# Altium footprint library SignalCommunications.PCBLIB: 466 footprints (part 11 of 30)
Each footprint in its own frame and in the unit in brackets; x right, y up, seen from the top. Pads: shape width x height; smd on the part's side, far side on the other; paste and mask are expansions set on the pad; w line width, h text height; cw(c..) or ccw(c..) is an arc to the next point about the centre after c.
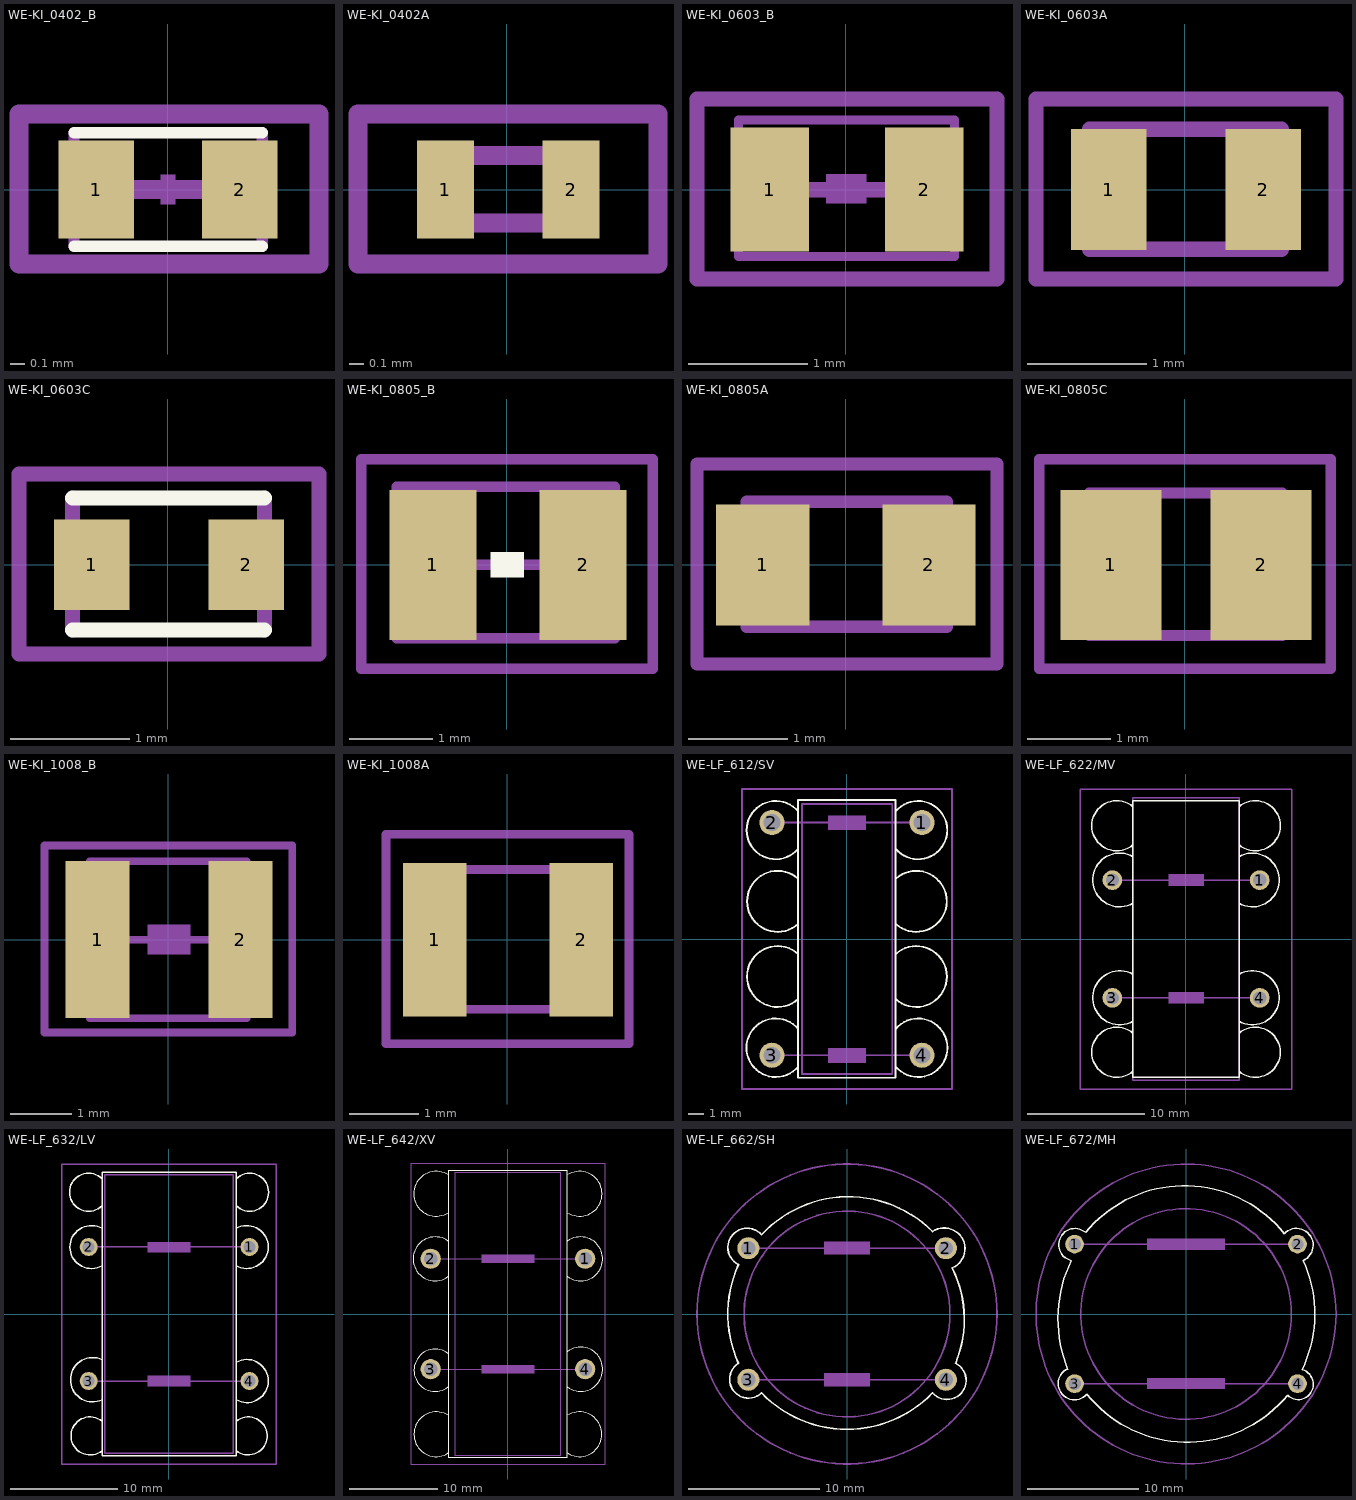
[diagram p10: the footprints below, top view; thin cyan lines are the x and y axes]

## WE-KI_0402_B [mil]
pads (2):
  rect 20x26 smd: 1(-18.9,0) 2(19,0)
Top Overlay:
  lines w3: -24.8,-14.96 25,-14.96 ; -24.8,15 25,15
Mechanical 16:
  region: 2.02,-3.95 2.02,3.98 -1.95,3.98 -1.95,-3.95
  lines w3: -24.8,-14.96 -24.8,15 ; 25,-14.96 25,15
  lines w5: -18.9,0 19,0
Mechanical 27:
  lines w5: -39.37,-19.68 -39.37,20 40,20 40,-19.68 -39.37,-19.68

## WE-KI_0402A [mil]
pads (2):
  rect 15x26 smd: 1(-16.24,0) 2(17,0)
Mechanical 16:
  lines w5: -19.68,-8.86 20,-8.86 20,9 -19.68,9 -19.68,-8.86
Mechanical 27:
  lines w5: -39.37,-19.68 -39.37,20 40,20 40,-19.68 -39.37,-19.68

## WE-KI_0603_B [mil]
pads (2):
  rect 26x41 smd: 1(-25.2,0) 2(26,0)
Mechanical 16:
  region: 6.79,-4.51 6.79,5.21 -6.51,5.21 -6.51,-4.51
  lines w3: -35.43,-22.05 36,-22.05 36,23 -35.43,23 -35.43,-22.05
  lines w5: -25.2,0 26,0
Mechanical 27:
  lines w5: -49.21,-29.53 -49.21,30 50,30 50,-29.53 -49.21,-29.53

## WE-KI_0603A [mil]
pads (2):
  rect 25x40 smd: 1(-25.1,0) 2(26,0)
Mechanical 16:
  lines w5: -31.5,-19.68 32,-19.68 32,20 -31.5,20 -31.5,-19.68
Mechanical 27:
  lines w5: -49.21,-29.53 -49.21,30 50,30 50,-29.53 -49.21,-29.53

## WE-KI_0603C [mil]
pads (2):
  rect 25x30 smd: 1(-25.1,0) 2(26,0)
Top Overlay:
  lines w5: -31.5,-21.65 32,-21.65 ; -31.5,22 32,22
Mechanical 16:
  lines w5: -31.5,-21.65 -31.5,22 ; 32,-21.65 32,22
Mechanical 27:
  lines w5: -49.21,-29.53 -49.21,30 50,30 50,-29.53 -49.21,-29.53

## WE-KI_0805_B [mil]
pads (2):
  rect 41x71 smd: 1(-35.04,0) 2(36,0)
Top Overlay:
  region: 7.98,-5.89 7.98,6.02 -7.89,6.02 -7.89,-5.89
Mechanical 16:
  lines w5: -35.04,0 36,0 ; -52.21,-34.69 51,-34.69 51,37 -52.21,37 -52.21,-34.69
Mechanical 27:
  lines w5: -68.9,-49.21 -68.9,50 69,50 69,-49.21 -68.9,-49.21

## WE-KI_0805A [mil]
pads (2):
  rect 37x48 smd: 1(-32.97,0) 2(33,0)
Mechanical 16:
  lines w5: -39.37,-24.61 40,-24.61 40,25 -39.37,25 -39.37,-24.61
Mechanical 27:
  lines w5: -59.06,-39.37 -59.06,40 60,40 60,-39.37 -59.06,-39.37

## WE-KI_0805C [mil]
pads (2):
  rect 48x71 smd: 1(-35.04,0) 2(36,0)
Mechanical 16:
  lines w5: -45.28,-33.46 46,-33.46 46,34 -45.28,34 -45.28,-33.46
Mechanical 27:
  lines w5: -68.9,-49.21 -68.9,50 69,50 69,-49.21 -68.9,-49.21

## WE-KI_1008_B [mil]
pads (2):
  rect 41x100 smd: 1(-45.08,0) 2(46,0)
Mechanical 16:
  region: 14.25,-9.27 14.25,9.75 -13.27,9.75 -13.27,-9.27
  lines w5: -45.08,0 46,0 ; -50,-50 50,-50 50,50 -50,50 -50,-50
Mechanical 27:
  lines w5: -78.74,-59.06 -78.74,60 79,60 79,-59.06 -78.74,-59.06

## WE-KI_1008A [mil]
pads (2):
  rect 36x87 smd: 1(-41.34,0) 2(42,0)
Mechanical 16:
  lines w5: -49.21,-39.37 50,-39.37 50,40 -49.21,40 -49.21,-39.37
Mechanical 27:
  lines w5: -68.9,-59.06 -68.9,60 69,60 69,-59.06 -68.9,-59.06

## WE-LF_612/SV [mil]
pads (4):
  round 66 hole 44: 1(197,306) 2(-196.85,306) 3(-196.85,-305.12) 4(197,-305.12)
Top Overlay:
  lines w5: -127.95,-334.65 -127.95,-236.22 ; -127.95,-334.65 -127.95,-364.17 128,-364.17 128,-334.65 ; -127.95,-334.65 cw(c-187.01,-285.43) -127.95,-236.22 ; -127.95,-236.22 -127.95,-157.48 ; -127.95,-157.48 -127.95,-39.37 ; -127.95,-157.48 cw(c-182.09,-98.43) -127.95,-39.37 ; -127.95,-39.37 -127.95,40 ; -127.95,40 -127.95,158 ; -127.95,40 cw(c-182.04,99) -127.95,158 ; -127.95,158 -127.95,237 ; -127.95,237 -127.95,335 ; -127.95,237 cw(c-186.75,286) -127.95,335 ; -127.95,335 -127.95,365 128,365 128,335 ; 128,-334.65 128,-236.22 ; 128,-334.65 ccw(c187.06,-285.43) 128,-236.22 ; 128,-236.22 128,-157.48 ; 128,-157.48 128,-39.37 ; 128,-157.48 ccw(c182.13,-98.43) 128,-39.37 ; 128,-39.37 128,40 ; 128,40 128,158 ; 128,40 ccw(c182.08,99) 128,158 ; 128,158 128,237 ; 128,237 128,335 ; 128,237 ccw(c186.8,286) 128,335
Mechanical 10:
  lines w5: -118.11,-354.33 -118.11,355 119,355 119,-354.33 -118.11,-354.33
Mechanical 16:
  rectangle: -49.21,286 50,325
  rectangle: -49.21,-324.8 50,-285.43
  lines w5: -196.85,-305.12 197,-305.12 ; -196.85,306 197,306
Mechanical 27:
  lines w5: -275.59,-393.7 -275.59,394 276,394 276,-393.7 -275.59,-393.7

## WE-LF_622/MV [mil]
pads (4):
  round 66 hole 44: 1(247,197) 2(-246.06,197) 3(-246.06,-196.85) 4(247,-196.85)
Top Overlay:
  lines w5: -177.17,-442.91 -177.17,-314.96 ; -177.17,-442.91 -177.17,-462.6 178,-462.6 178,-442.91 ; -177.17,-442.91 cw(c-231.3,-378.94) -177.17,-314.96 ; -177.17,-314.96 -177.17,-275.59 ; -177.17,-275.59 -177.17,-118.11 ; -177.17,-275.59 cw(c-221.46,-196.85) -177.17,-118.11 ; -177.17,-118.11 -177.17,119 ; -177.17,119 -177.17,276 ; -177.17,119 cw(c-221.32,197.5) -177.17,276 ; -177.17,276 -177.17,315 ; -177.17,315 -177.17,443 ; -177.17,315 cw(c-231.32,379) -177.17,443 ; -177.17,443 -177.17,463 178,463 178,443 ; 178,-442.91 178,-314.96 ; 178,-442.91 ccw(c232.13,-378.94) 178,-314.96 ; 178,-314.96 178,-275.59 ; 178,-275.59 178,-118.11 ; 178,-275.59 ccw(c222.29,-196.85) 178,-118.11 ; 178,-118.11 178,119 ; 178,119 178,276 ; 178,119 ccw(c222.16,197.5) 178,276 ; 178,276 178,315 ; 178,315 178,443 ; 178,315 ccw(c232.15,379) 178,443
Mechanical 10:
  lines w5: -177.17,-472.44 -177.17,473 178,473 178,-472.44 -177.17,-472.44
Mechanical 16:
  rectangle: -59.06,178 60,217
  rectangle: -59.06,-216.54 60,-177.16
  lines w5: -246.06,-196.85 247,-196.85 ; -246.06,197 247,197
Mechanical 27:
  lines w5: -354.33,-501.97 -354.33,502 355,502 355,-501.97 -354.33,-501.97

## WE-LF_632/LV [mil]
pads (4):
  round 66 hole 44: 1(296,247) 2(-295.28,247) 3(-295.28,-246.06) 4(296,-246.06)
Top Overlay:
  lines w5: -246.06,-501.97 -246.06,-393.7 ; -246.06,-501.97 -246.06,-521.65 247,-521.65 247,-501.97 ; -246.06,-501.97 cw(c-290.35,-447.83) -246.06,-393.7 ; -246.06,-393.7 -246.06,-314.96 ; -246.06,-314.96 -246.06,-167.32 ; -246.06,-314.96 cw(c-280.51,-241.14) -246.06,-167.32 ; -246.06,-167.32 -246.06,178 ; -246.06,178 -246.06,315 ; -246.06,178 cw(c-285.21,246.5) -246.06,315 ; -246.06,315 -246.06,399 ; -246.06,399 -246.06,498 ; -246.06,399 cw(c-295.56,448.5) -246.06,498 ; -246.06,498 -246.06,522 247,522 247,498 ; 247,-501.97 247,-393.7 ; 247,-501.97 ccw(c291.29,-447.83) 247,-393.7 ; 247,-393.7 247,-314.96 ; 247,-314.96 247,-177.17 ; 247,-314.96 ccw(c286.37,-246.06) 247,-177.17 ; 247,-177.17 247,178 ; 247,178 247,315 ; 247,178 ccw(c286.14,246.5) 247,315 ; 247,315 247,399 ; 247,399 247,498 ; 247,399 ccw(c296.5,448.5) 247,498
Mechanical 10:
  lines w5: -236.22,-511.81 -236.22,512 237,512 237,-511.81 -236.22,-511.81
Mechanical 16:
  rectangle: -78.74,227 79,266
  rectangle: -78.74,-265.75 79,-226.37
  lines w5: -295.28,-246.06 296,-246.06 ; -295.28,247 296,247
Mechanical 27:
  lines w5: -393.7,-551.18 -393.7,552 394,552 394,-551.18 -393.7,-551.18

## WE-LF_642/XV [mil]
pads (4):
  round 90 hole 60: 1(345,247) 2(-344.49,247) 3(-344.49,-246.06) 4(345,-246.06)
Top Overlay:
  lines w5: -265.75,-620.08 -265.75,-452.76 ; -265.75,-620.08 -265.75,-639.76 266,-639.76 266,-620.08 ; -265.75,-620.08 cw(c-319.88,-536.42) -265.75,-452.76 ; -265.75,-452.76 -265.75,-324.8 ; -265.75,-324.8 -265.75,-177.17 ; -265.75,-324.8 cw(c-324.8,-250.98) -265.75,-177.17 ; -265.75,-177.17 -265.75,168 ; -265.75,168 -265.75,325 ; -265.75,168 cw(c-324.62,246.5) -265.75,325 ; -265.75,325 -265.75,453 ; -265.75,453 -265.75,621 ; -265.75,453 cw(c-320.1,537) -265.75,621 ; -265.75,621 -265.75,640 266,640 266,621 ; 266,-620.08 266,-452.76 ; 266,-620.08 ccw(c320.13,-536.42) 266,-452.76 ; 266,-452.76 266,-324.8 ; 266,-324.8 266,-167.32 ; 266,-324.8 ccw(c325.06,-246.06) 266,-167.32 ; 266,-167.32 266,168 ; 266,168 266,325 ; 266,168 ccw(c324.88,246.5) 266,325 ; 266,325 266,453 ; 266,453 266,621 ; 266,453 ccw(c320.35,537) 266,621
Mechanical 10:
  lines w5: -236.22,-629.92 -236.22,630 237,630 237,-629.92 -236.22,-629.92
Mechanical 16:
  rectangle: -118.11,227 119,266
  rectangle: -118.11,-265.75 119,-226.37
  lines w5: -344.49,-246.06 345,-246.06 ; -344.49,247 345,247
Mechanical 27:
  lines w5: -433.07,-669.29 -433.07,670 434,670 434,-669.29 -433.07,-669.29

## WE-LF_662/SH [mil]
pads (4):
  round 66 hole 44: 1(-295.28,197) 2(296,197) 3(-295.28,-196.85) 4(296,-196.85)
Top Overlay:
  lines w5: -324.8,-147.64 cw(c0.4,0.18) -324.8,148 cw(c-299.25,199.39) -255.91,237 cw(c4.86,-4.12) 256,247 cw(c290.95,195.45) 315,138 cw(c5.8,-15.82) 325,-147.64 cw(c299.36,-198.83) 256,-236.22 cw(c0.05,9.9) -255.91,-236.22 cw(c-294.78,-195.37) -324.8,-147.64
Mechanical 10:
  circle w5: c0,0 r308
Mechanical 16:
  rectangle: -68.9,178 69,217
  rectangle: -68.9,-216.54 69,-177.16
  lines w5: -295.28,-196.85 296,-196.85 ; -295.28,197 296,197
Mechanical 27:
  circle w5: c0,0 r449

## WE-LF_672/MH [mil]
pads (4):
  round 66 hole 44: 1(-393.7,247) 2(394,247) 3(-393.7,-246.06) 4(394,-246.06)
Top Overlay:
  lines w5: -417.32,-196.85 cw(c23.65,-17.24) -405.51,189 cw(c-392.3,244.9) -354.33,288 cw(c-5.28,2.32) 347,284 cw(c390,243.2) 414,189 cw(c0.56,0.34) 410,-196.85 cw(c396.31,-248.78) 359,-287.4 cw(c5.92,6.21) -350.39,-283.46 cw(c-393.7,-245.46) -417.32,-192.91
Mechanical 10:
  circle w5: c0,0 r372
Mechanical 16:
  rectangle: -137.8,-265.75 138,-226.37
  rectangle: -137.8,227 138,266
  lines w5: -393.7,-246.06 394,-246.06 ; -393.7,247 394,247
Mechanical 27:
  circle w5: c0,0 r530